# EAGLE library part MCP4922T-E_ST (library MCP4922T-E_ST)
MICROCHIP - MCP4922T-E/ST - DAC, 12BIT, -40 TO 125DEG C, TSSOP Source: Datasheet <http://ww1.microchip.com/downloads/en/devicedoc/22250a.pdf>
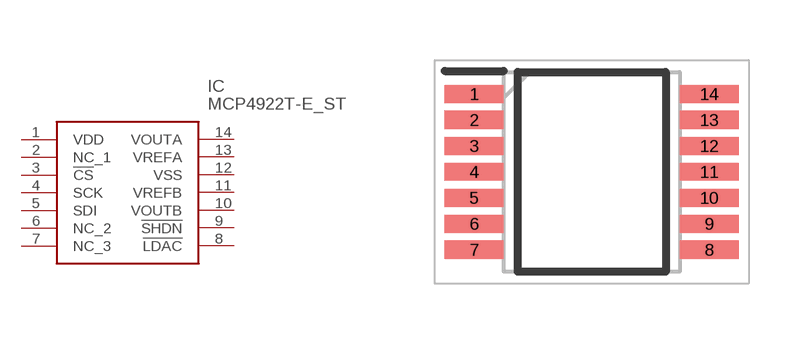
[diagram p0: symbol with the pads of SOP65P640X120-14N; footprint SOP65P640X120-14N]

Designator prefix IC

## MCP4922T-E_ST (Allied_Number: 70451631; Allied_Price-Stock: https://www.alliedelec.com/microchiptechnologyinc-mcp4922t-e-st/70451631/; Description: MICROCHIP - MCP4922T-E/ST - DAC, 12BIT, -40 TO 125DEG C, TSSOP; Height: 1.2mm; Manufacturer_Name: Microchip; Manufacturer_Part_Number: MCP4922T-E/ST; Mouser_Part_Number: 579-MCP4922T-E/ST; Mouser_Price-Stock: https://www.mouser.com/Search/Refine.aspx?Keyword=579-MCP4922T-E%2FST; RS_Part_Number: 1773123; RS_Price-Stock: https://uk.rs-online.com/web/p/products/1773123)  [SOP65P640X120-14N]
1  VDD
2  NC_1
3  !CS
4  SCK
5  SDI
6  NC_2
7  NC_3
8  !LDAC
9  !SHDN
10  VOUTB
11  VREFB
12  VSS
13  VREFA
14  VOUTA

## Footprint SOP65P640X120-14N (pad centres in mm)
MCP4922T-E/ST-1
smd 1.475 x 0.45: 1 -2.938,1.95; 2 -2.938,1.3; 3 -2.938,0.65; 4 -2.938,0; 5 -2.938,-0.65; 6 -2.938,-1.3; 7 -2.938,-1.95; 8 2.938,-1.95; 9 2.938,-1.3; 10 2.938,-0.65; 11 2.938,0; 12 2.938,0.65; 13 2.938,1.3; 14 2.938,1.95